# Altium schematic symbol library SCH - MCU - STM32 - ST MICROELECTRONICS STM32F765I(G-I)KX UFBGA176.SchLib: 1 symbol
Pins are listed as number, name and electrical type; pins without a type are passive.

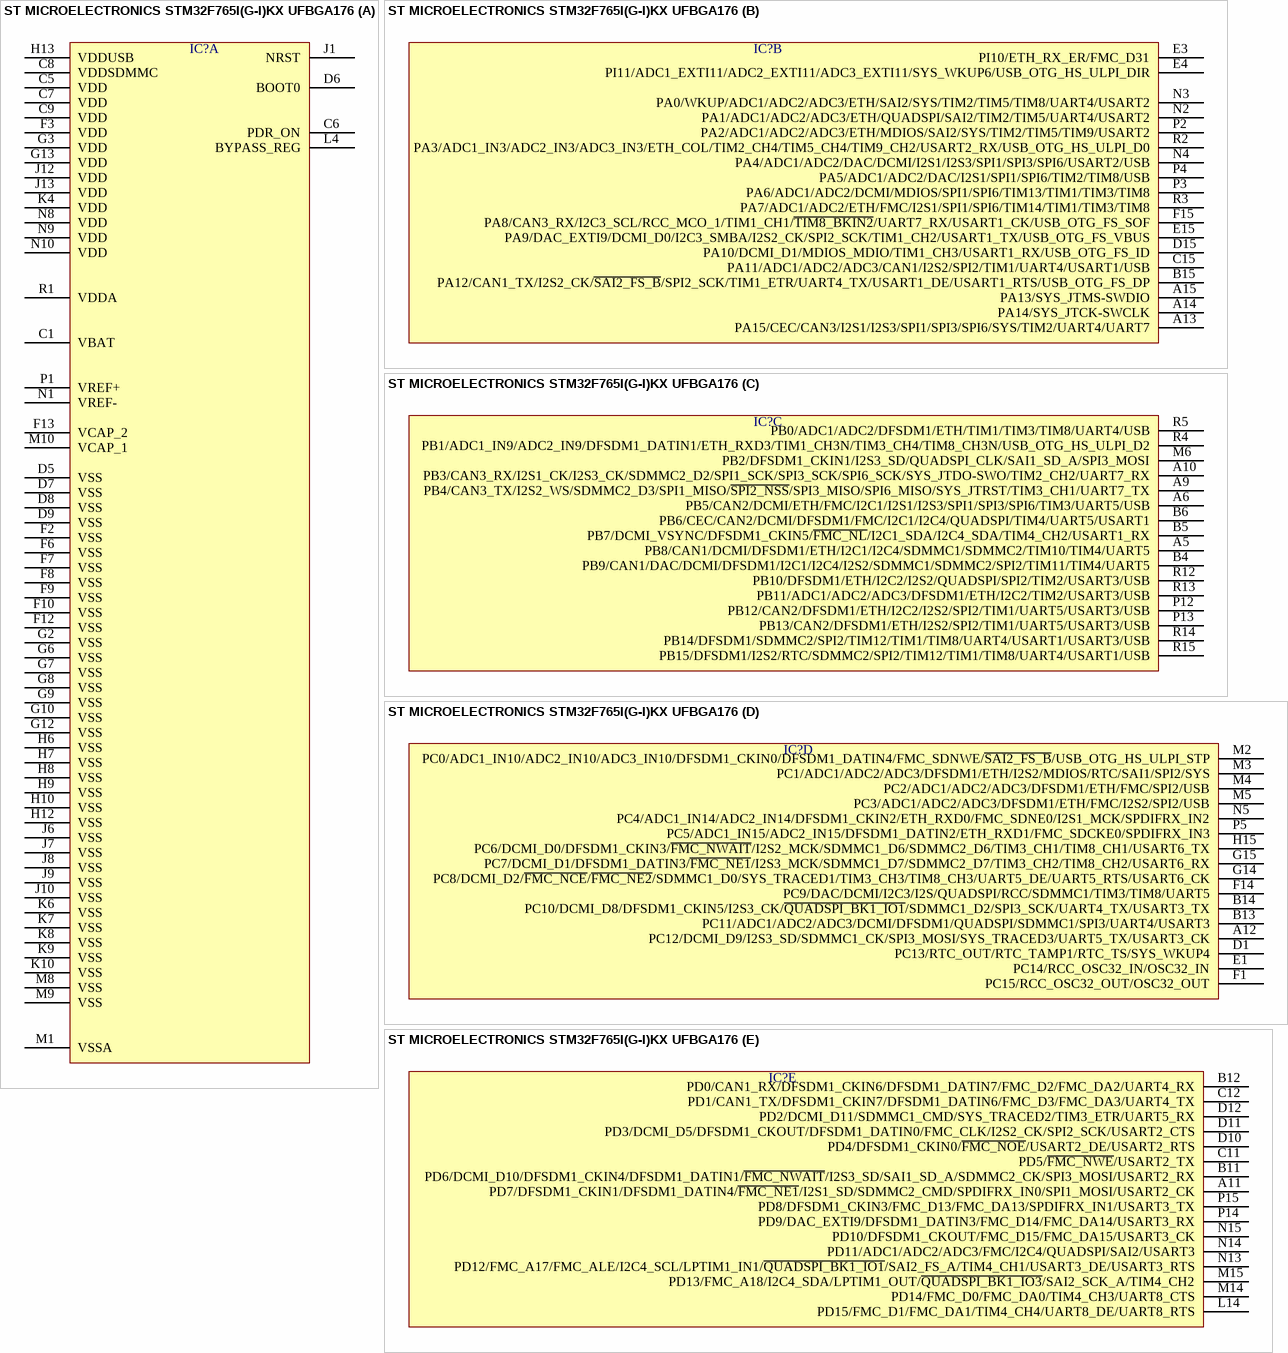
[diagram p0: symbol ST MICROELECTRONICS STM32F765I(G-I)KX UFBGA176]

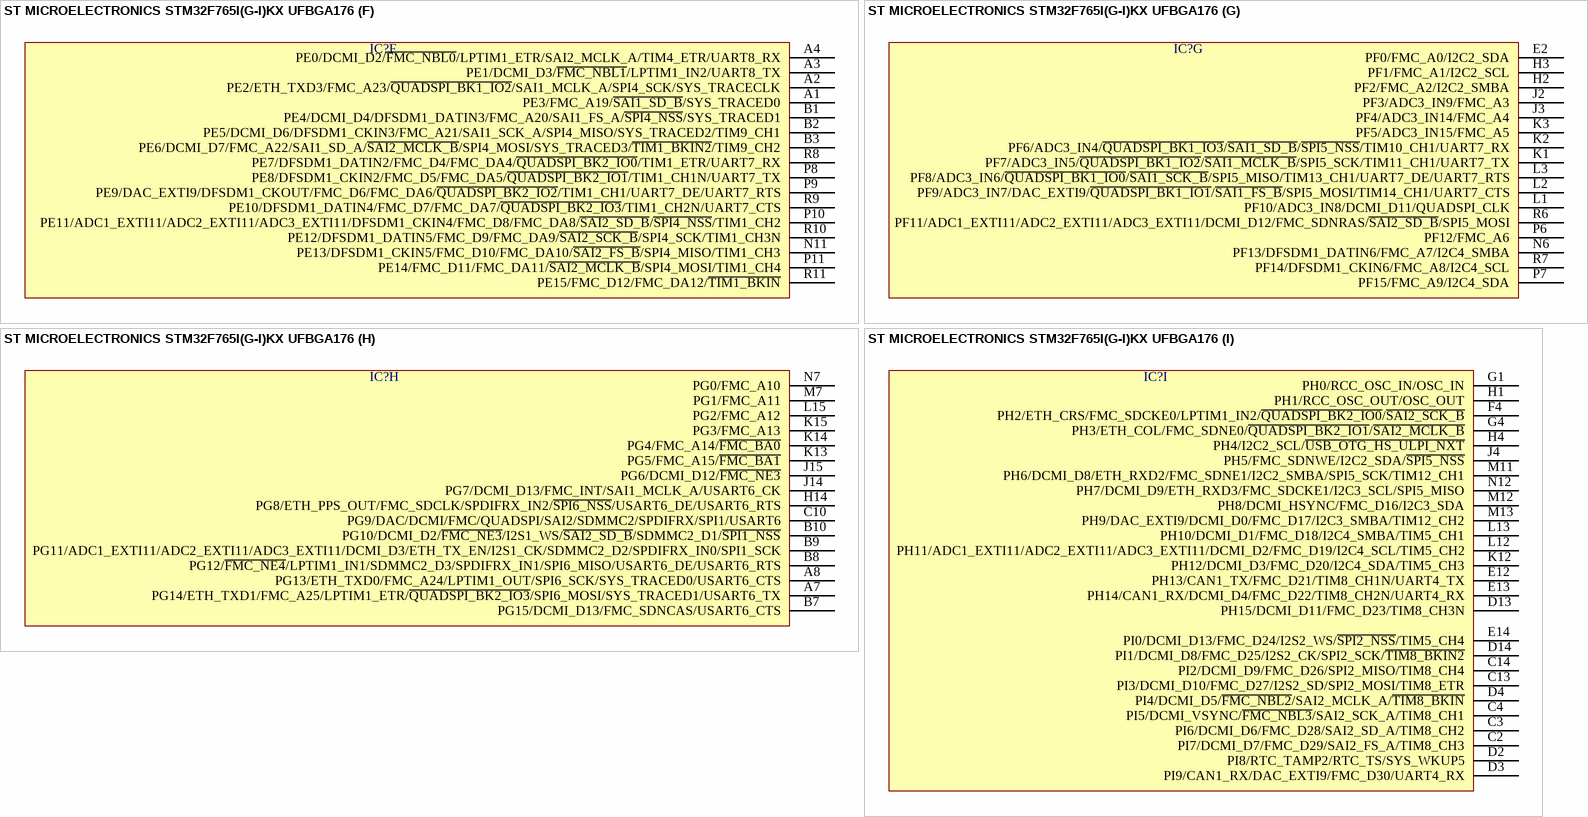
[diagram p1: symbol ST MICROELECTRONICS STM32F765I(G-I)KX UFBGA176]

## ST MICROELECTRONICS STM32F765I(G-I)KX UFBGA176
designator IC?  (value not drawn)
part A pins: C1 VBAT, C5 VDD, C6 PDR_ON, C7 VDD, C8 VDDSDMMC, C9 VDD, D5 VSS, D6 BOOT0, D7 VSS, D8 VSS, D9 VSS, F2 VSS, F3 VDD, F6 VSS, F7 VSS, F8 VSS, F9 VSS, F10 VSS, F12 VSS, F13 VCAP_2, G2 VSS, G3 VDD, G6 VSS, G7 VSS, G8 VSS, G9 VSS, G10 VSS, G12 VSS, G13 VDD, H6 VSS, H7 VSS, H8 VSS, H9 VSS, H10 VSS, H12 VSS, H13 VDDUSB, J1 NRST, J6 VSS, J7 VSS, J8 VSS, J9 VSS, J10 VSS, J12 VDD, J13 VDD, K4 VDD, K6 VSS, K7 VSS, K8 VSS, K9 VSS, K10 VSS, L4 BYPASS_REG, M1 VSSA, M8 VSS, M9 VSS, M10 VCAP_1, N1 VREF-, N8 VDD, N9 VDD, N10 VDD, P1 VREF+, R1 VDDA
part B pins: A13 PA15/CEC/CAN3/I2S1/I2S3/SPI1/SPI3/SPI6/SYS/TIM2/UART4/UART7, A14 PA14/SYS_JTCK-SWCLK, A15 PA13/SYS_JTMS-SWDIO, B15 PA12/CAN1_TX/I2S2_CK/~{SAI2_FS_B}/SPI2_SCK/TIM1_ETR/UART4_TX/USART1_DE/USART1_RTS/USB_OTG_FS_DP, C15 PA11/ADC1/ADC2/ADC3/CAN1/I2S2/SPI2/TIM1/UART4/USART1/USB, D15 PA10/DCMI_D1/MDIOS_MDIO/TIM1_CH3/USART1_RX/USB_OTG_FS_ID, E3 PI10/ETH_RX_ER/FMC_D31, E4 PI11/ADC1_EXTI11/ADC2_EXTI11/ADC3_EXTI11/SYS_WKUP6/USB_OTG_HS_ULPI_DIR, E15 PA9/DAC_EXTI9/DCMI_D0/I2C3_SMBA/I2S2_CK/SPI2_SCK/TIM1_CH2/USART1_TX/USB_OTG_FS_VBUS, F15 PA8/CAN3_RX/I2C3_SCL/RCC_MCO_1/TIM1_CH1/~{TIM8_BKIN2}/UART7_RX/USART1_CK/USB_OTG_FS_SOF, N2 PA1/ADC1/ADC2/ADC3/ETH/QUADSPI/SAI2/TIM2/TIM5/UART4/USART2, N3 PA0/WKUP/ADC1/ADC2/ADC3/ETH/SAI2/SYS/TIM2/TIM5/TIM8/UART4/USART2, N4 PA4/ADC1/ADC2/DAC/DCMI/I2S1/I2S3/SPI1/SPI3/SPI6/USART2/USB, P2 PA2/ADC1/ADC2/ADC3/ETH/MDIOS/SAI2/SYS/TIM2/TIM5/TIM9/USART2, P3 PA6/ADC1/ADC2/DCMI/MDIOS/SPI1/SPI6/TIM13/TIM1/TIM3/TIM8, P4 PA5/ADC1/ADC2/DAC/I2S1/SPI1/SPI6/TIM2/TIM8/USB, R2 PA3/ADC1_IN3/ADC2_IN3/ADC3_IN3/ETH_COL/TIM2_CH4/TIM5_CH4/TIM9_CH2/USART2_RX/USB_OTG_HS_ULPI_D0, R3 PA7/ADC1/ADC2/ETH/FMC/I2S1/SPI1/SPI6/TIM14/TIM1/TIM3/TIM8
part C pins: A5 PB8/CAN1/DCMI/DFSDM1/ETH/I2C1/I2C4/SDMMC1/SDMMC2/TIM10/TIM4/UART5, A6 PB5/CAN2/DCMI/ETH/FMC/I2C1/I2S1/I2S3/SPI1/SPI3/SPI6/TIM3/UART5/USB, A9 PB4/CAN3_TX/I2S2_WS/SDMMC2_D3/SPI1_MISO/~{SPI2_NSS}/SPI3_MISO/SPI6_MISO/SYS_JTRST/TIM3_CH1/UART7_TX, A10 PB3/CAN3_RX/I2S1_CK/I2S3_CK/SDMMC2_D2/SPI1_SCK/SPI3_SCK/SPI6_SCK/SYS_JTDO-SWO/TIM2_CH2/UART7_RX, B4 PB9/CAN1/DAC/DCMI/DFSDM1/I2C1/I2C4/I2S2/SDMMC1/SDMMC2/SPI2/TIM11/TIM4/UART5, B5 PB7/DCMI_VSYNC/DFSDM1_CKIN5/~{FMC_NL}/I2C1_SDA/I2C4_SDA/TIM4_CH2/USART1_RX, B6 PB6/CEC/CAN2/DCMI/DFSDM1/FMC/I2C1/I2C4/QUADSPI/TIM4/UART5/USART1, M6 PB2/DFSDM1_CKIN1/I2S3_SD/QUADSPI_CLK/SAI1_SD_A/SPI3_MOSI, P12 PB12/CAN2/DFSDM1/ETH/I2C2/I2S2/SPI2/TIM1/UART5/USART3/USB, P13 PB13/CAN2/DFSDM1/ETH/I2S2/SPI2/TIM1/UART5/USART3/USB, R4 PB1/ADC1_IN9/ADC2_IN9/DFSDM1_DATIN1/ETH_RXD3/TIM1_CH3N/TIM3_CH4/TIM8_CH3N/USB_OTG_HS_ULPI_D2, R5 PB0/ADC1/ADC2/DFSDM1/ETH/TIM1/TIM3/TIM8/UART4/USB, R12 PB10/DFSDM1/ETH/I2C2/I2S2/QUADSPI/SPI2/TIM2/USART3/USB, R13 PB11/ADC1/ADC2/ADC3/DFSDM1/ETH/I2C2/TIM2/USART3/USB, R14 PB14/DFSDM1/SDMMC2/SPI2/TIM12/TIM1/TIM8/UART4/USART1/USART3/USB, R15 PB15/DFSDM1/I2S2/RTC/SDMMC2/SPI2/TIM12/TIM1/TIM8/UART4/USART1/USB
part D pins: A12 PC12/DCMI_D9/I2S3_SD/SDMMC1_CK/SPI3_MOSI/SYS_TRACED3/UART5_TX/USART3_CK, B13 PC11/ADC1/ADC2/ADC3/DCMI/DFSDM1/QUADSPI/SDMMC1/SPI3/UART4/USART3, B14 PC10/DCMI_D8/DFSDM1_CKIN5/I2S3_CK/~{QUADSPI_BK1_IO1}/SDMMC1_D2/SPI3_SCK/UART4_TX/USART3_TX, D1 PC13/RTC_OUT/RTC_TAMP1/RTC_TS/SYS_WKUP4, E1 PC14/RCC_OSC32_IN/OSC32_IN, F1 PC15/RCC_OSC32_OUT/OSC32_OUT, F14 PC9/DAC/DCMI/I2C3/I2S/QUADSPI/RCC/SDMMC1/TIM3/TIM8/UART5, G14 PC8/DCMI_D2/~{FMC_NCE}/~{FMC_NE2}/SDMMC1_D0/SYS_TRACED1/TIM3_CH3/TIM8_CH3/UART5_DE/UART5_RTS/USART6_CK, G15 PC7/DCMI_D1/DFSDM1_DATIN3/~{FMC_NE1}/I2S3_MCK/SDMMC1_D7/SDMMC2_D7/TIM3_CH2/TIM8_CH2/USART6_RX, H15 PC6/DCMI_D0/DFSDM1_CKIN3/~{FMC_NWAIT}/I2S2_MCK/SDMMC1_D6/SDMMC2_D6/TIM3_CH1/TIM8_CH1/USART6_TX, M2 PC0/ADC1_IN10/ADC2_IN10/ADC3_IN10/DFSDM1_CKIN0/DFSDM1_DATIN4/FMC_SDNWE/~{SAI2_FS_B}/USB_OTG_HS_ULPI_STP, M3 PC1/ADC1/ADC2/ADC3/DFSDM1/ETH/I2S2/MDIOS/RTC/SAI1/SPI2/SYS, M4 PC2/ADC1/ADC2/ADC3/DFSDM1/ETH/FMC/SPI2/USB, M5 PC3/ADC1/ADC2/ADC3/DFSDM1/ETH/FMC/I2S2/SPI2/USB, N5 PC4/ADC1_IN14/ADC2_IN14/DFSDM1_CKIN2/ETH_RXD0/FMC_SDNE0/I2S1_MCK/SPDIFRX_IN2, P5 PC5/ADC1_IN15/ADC2_IN15/DFSDM1_DATIN2/ETH_RXD1/FMC_SDCKE0/SPDIFRX_IN3
part E pins: A11 PD7/DFSDM1_CKIN1/DFSDM1_DATIN4/~{FMC_NE1}/I2S1_SD/SDMMC2_CMD/SPDIFRX_IN0/SPI1_MOSI/USART2_CK, B11 PD6/DCMI_D10/DFSDM1_CKIN4/DFSDM1_DATIN1/~{FMC_NWAIT}/I2S3_SD/SAI1_SD_A/SDMMC2_CK/SPI3_MOSI/USART2_RX, B12 PD0/CAN1_RX/DFSDM1_CKIN6/DFSDM1_DATIN7/FMC_D2/FMC_DA2/UART4_RX, C11 PD5/~{FMC_NWE}/USART2_TX, C12 PD1/CAN1_TX/DFSDM1_CKIN7/DFSDM1_DATIN6/FMC_D3/FMC_DA3/UART4_TX, D10 PD4/DFSDM1_CKIN0/~{FMC_NOE}/USART2_DE/USART2_RTS, D11 PD3/DCMI_D5/DFSDM1_CKOUT/DFSDM1_DATIN0/FMC_CLK/I2S2_CK/SPI2_SCK/USART2_CTS, D12 PD2/DCMI_D11/SDMMC1_CMD/SYS_TRACED2/TIM3_ETR/UART5_RX, L14 PD15/FMC_D1/FMC_DA1/TIM4_CH4/UART8_DE/UART8_RTS, M14 PD14/FMC_D0/FMC_DA0/TIM4_CH3/UART8_CTS, M15 PD13/FMC_A18/I2C4_SDA/LPTIM1_OUT/~{QUADSPI_BK1_IO3}/SAI2_SCK_A/TIM4_CH2, N13 PD12/FMC_A17/FMC_ALE/I2C4_SCL/LPTIM1_IN1/~{QUADSPI_BK1_IO1}/SAI2_FS_A/TIM4_CH1/USART3_DE/USART3_RTS, N14 PD11/ADC1/ADC2/ADC3/FMC/I2C4/QUADSPI/SAI2/USART3, N15 PD10/DFSDM1_CKOUT/FMC_D15/FMC_DA15/USART3_CK, P14 PD9/DAC_EXTI9/DFSDM1_DATIN3/FMC_D14/FMC_DA14/USART3_RX, P15 PD8/DFSDM1_CKIN3/FMC_D13/FMC_DA13/SPDIFRX_IN1/USART3_TX
part F pins: A1 PE3/FMC_A19/~{SAI1_SD_B}/SYS_TRACED0, A2 PE2/ETH_TXD3/FMC_A23/~{QUADSPI_BK1_IO2}/SAI1_MCLK_A/SPI4_SCK/SYS_TRACECLK, A3 PE1/DCMI_D3/~{FMC_NBL1}/LPTIM1_IN2/UART8_TX, A4 PE0/DCMI_D2/~{FMC_NBL0}/LPTIM1_ETR/SAI2_MCLK_A/TIM4_ETR/UART8_RX, B1 PE4/DCMI_D4/DFSDM1_DATIN3/FMC_A20/SAI1_FS_A/~{SPI4_NSS}/SYS_TRACED1, B2 PE5/DCMI_D6/DFSDM1_CKIN3/FMC_A21/SAI1_SCK_A/SPI4_MISO/SYS_TRACED2/TIM9_CH1, B3 PE6/DCMI_D7/FMC_A22/SAI1_SD_A/~{SAI2_MCLK_B}/SPI4_MOSI/SYS_TRACED3/~{TIM1_BKIN2}/TIM9_CH2, N11 PE13/DFSDM1_CKIN5/FMC_D10/FMC_DA10/~{SAI2_FS_B}/SPI4_MISO/TIM1_CH3, P8 PE8/DFSDM1_CKIN2/FMC_D5/FMC_DA5/~{QUADSPI_BK2_IO1}/TIM1_CH1N/UART7_TX, P9 PE9/DAC_EXTI9/DFSDM1_CKOUT/FMC_D6/FMC_DA6/~{QUADSPI_BK2_IO2}/TIM1_CH1/UART7_DE/UART7_RTS, P10 PE11/ADC1_EXTI11/ADC2_EXTI11/ADC3_EXTI11/DFSDM1_CKIN4/FMC_D8/FMC_DA8/~{SAI2_SD_B}/~{SPI4_NSS}/TIM1_CH2, P11 PE14/FMC_D11/FMC_DA11/~{SAI2_MCLK_B}/SPI4_MOSI/TIM1_CH4, R8 PE7/DFSDM1_DATIN2/FMC_D4/FMC_DA4/~{QUADSPI_BK2_IO0}/TIM1_ETR/UART7_RX, R9 PE10/DFSDM1_DATIN4/FMC_D7/FMC_DA7/~{QUADSPI_BK2_IO3}/TIM1_CH2N/UART7_CTS, R10 PE12/DFSDM1_DATIN5/FMC_D9/FMC_DA9/~{SAI2_SCK_B}/SPI4_SCK/TIM1_CH3N, R11 PE15/FMC_D12/FMC_DA12/~{TIM1_BKIN}
part G pins: E2 PF0/FMC_A0/I2C2_SDA, H2 PF2/FMC_A2/I2C2_SMBA, H3 PF1/FMC_A1/I2C2_SCL, J2 PF3/ADC3_IN9/FMC_A3, J3 PF4/ADC3_IN14/FMC_A4, K1 PF7/ADC3_IN5/~{QUADSPI_BK1_IO2}/~{SAI1_MCLK_B}/SPI5_SCK/TIM11_CH1/UART7_TX, K2 PF6/ADC3_IN4/~{QUADSPI_BK1_IO3}/~{SAI1_SD_B}/~{SPI5_NSS}/TIM10_CH1/UART7_RX, K3 PF5/ADC3_IN15/FMC_A5, L1 PF10/ADC3_IN8/DCMI_D11/QUADSPI_CLK, L2 PF9/ADC3_IN7/DAC_EXTI9/~{QUADSPI_BK1_IO1}/~{SAI1_FS_B}/SPI5_MOSI/TIM14_CH1/UART7_CTS, L3 PF8/ADC3_IN6/~{QUADSPI_BK1_IO0}/~{SAI1_SCK_B}/SPI5_MISO/TIM13_CH1/UART7_DE/UART7_RTS, N6 PF13/DFSDM1_DATIN6/FMC_A7/I2C4_SMBA, P6 PF12/FMC_A6, P7 PF15/FMC_A9/I2C4_SDA, R6 PF11/ADC1_EXTI11/ADC2_EXTI11/ADC3_EXTI11/DCMI_D12/FMC_SDNRAS/~{SAI2_SD_B}/SPI5_MOSI, R7 PF14/DFSDM1_CKIN6/FMC_A8/I2C4_SCL
part H pins: A7 PG14/ETH_TXD1/FMC_A25/LPTIM1_ETR/~{QUADSPI_BK2_IO3}/SPI6_MOSI/SYS_TRACED1/USART6_TX, A8 PG13/ETH_TXD0/FMC_A24/LPTIM1_OUT/SPI6_SCK/SYS_TRACED0/USART6_CTS, B7 PG15/DCMI_D13/FMC_SDNCAS/USART6_CTS, B8 PG12/~{FMC_NE4}/LPTIM1_IN1/SDMMC2_D3/SPDIFRX_IN1/SPI6_MISO/USART6_DE/USART6_RTS, B9 PG11/ADC1_EXTI11/ADC2_EXTI11/ADC3_EXTI11/DCMI_D3/ETH_TX_EN/I2S1_CK/SDMMC2_D2/SPDIFRX_IN0/SPI1_SCK, B10 PG10/DCMI_D2/~{FMC_NE3}/I2S1_WS/~{SAI2_SD_B}/SDMMC2_D1/~{SPI1_NSS}, C10 PG9/DAC/DCMI/FMC/QUADSPI/SAI2/SDMMC2/SPDIFRX/SPI1/USART6, H14 PG8/ETH_PPS_OUT/FMC_SDCLK/SPDIFRX_IN2/~{SPI6_NSS}/USART6_DE/USART6_RTS, J14 PG7/DCMI_D13/FMC_INT/SAI1_MCLK_A/USART6_CK, J15 PG6/DCMI_D12/~{FMC_NE3}, K13 PG5/FMC_A15/~{FMC_BA1}, K14 PG4/FMC_A14/~{FMC_BA0}, K15 PG3/FMC_A13, L15 PG2/FMC_A12, M7 PG1/FMC_A11, N7 PG0/FMC_A10
part I pins: C2 PI7/DCMI_D7/FMC_D29/SAI2_FS_A/TIM8_CH3, C3 PI6/DCMI_D6/FMC_D28/SAI2_SD_A/TIM8_CH2, C4 PI5/DCMI_VSYNC/~{FMC_NBL3}/SAI2_SCK_A/TIM8_CH1, C13 PI3/DCMI_D10/FMC_D27/I2S2_SD/SPI2_MOSI/TIM8_ETR, C14 PI2/DCMI_D9/FMC_D26/SPI2_MISO/TIM8_CH4, D2 PI8/RTC_TAMP2/RTC_TS/SYS_WKUP5, D3 PI9/CAN1_RX/DAC_EXTI9/FMC_D30/UART4_RX, D4 PI4/DCMI_D5/~{FMC_NBL2}/SAI2_MCLK_A/~{TIM8_BKIN}, D13 PH15/DCMI_D11/FMC_D23/TIM8_CH3N, D14 PI1/DCMI_D8/FMC_D25/I2S2_CK/SPI2_SCK/~{TIM8_BKIN2}, E12 PH13/CAN1_TX/FMC_D21/TIM8_CH1N/UART4_TX, E13 PH14/CAN1_RX/DCMI_D4/FMC_D22/TIM8_CH2N/UART4_RX, E14 PI0/DCMI_D13/FMC_D24/I2S2_WS/~{SPI2_NSS}/TIM5_CH4, F4 PH2/ETH_CRS/FMC_SDCKE0/LPTIM1_IN2/~{QUADSPI_BK2_IO0}/~{SAI2_SCK_B}, G1 PH0/RCC_OSC_IN/OSC_IN, G4 PH3/ETH_COL/FMC_SDNE0/~{QUADSPI_BK2_IO1}/~{SAI2_MCLK_B}, H1 PH1/RCC_OSC_OUT/OSC_OUT, H4 PH4/I2C2_SCL/~{USB_OTG_HS_ULPI_NXT}, J4 PH5/FMC_SDNWE/I2C2_SDA/~{SPI5_NSS}, K12 PH12/DCMI_D3/FMC_D20/I2C4_SDA/TIM5_CH3, L12 PH11/ADC1_EXTI11/ADC2_EXTI11/ADC3_EXTI11/DCMI_D2/FMC_D19/I2C4_SCL/TIM5_CH2, L13 PH10/DCMI_D1/FMC_D18/I2C4_SMBA/TIM5_CH1, M11 PH6/DCMI_D8/ETH_RXD2/FMC_SDNE1/I2C2_SMBA/SPI5_SCK/TIM12_CH1, M12 PH8/DCMI_HSYNC/FMC_D16/I2C3_SDA, M13 PH9/DAC_EXTI9/DCMI_D0/FMC_D17/I2C3_SMBA/TIM12_CH2, N12 PH7/DCMI_D9/ETH_RXD3/FMC_SDCKE1/I2C3_SCL/SPI5_MISO